# Altium footprint library B66359.PcbLib: 1 footprints
Each footprint in its own frame and in the unit in brackets; x right, y up, seen from the top. Pads: shape width x height; smd on the part's side, far side on the other; paste and mask are expansions set on the pad; w line width, h text height; cw(c..) or ccw(c..) is an arc to the next point about the centre after c.
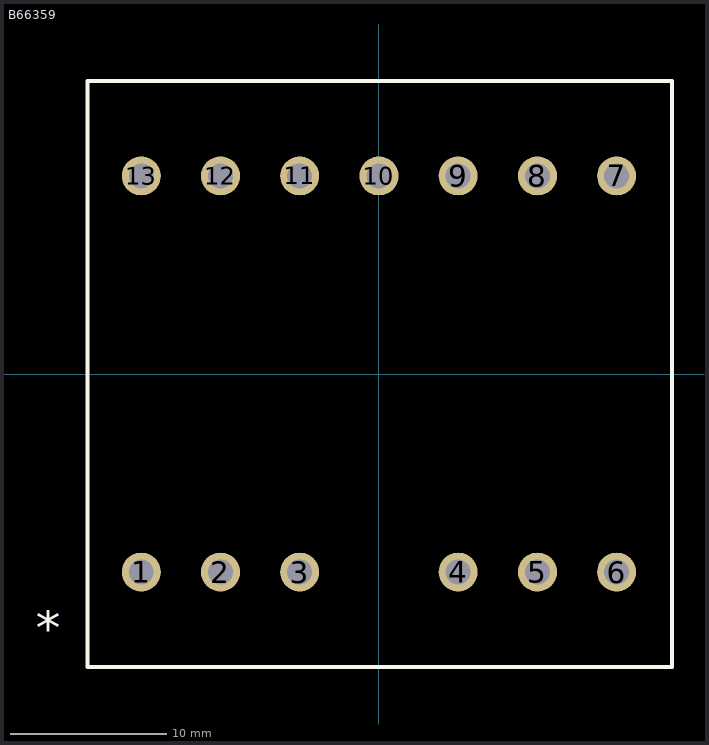
[diagram p0: the footprint, top view; thin cyan lines are the x and y axes]

## B66359 [mm]
pads (13):
  round 2.5 hole 1.6: 1(-15.24,-12.7) 2(-10.16,-12.7) 3(-5.08,-12.7) 4(5.08,-12.7) 5(10.16,-12.7) 6(15.24,-12.7) 7(15.24,12.7) 8(10.16,12.7) 9(5.08,12.7) 10(0,12.7) 11(-5.08,12.7) 12(-10.16,12.7) 13(-15.24,12.7)
Top Overlay:
  lines w0.254: -18.7,-18.8 18.8,-18.8 18.8,18.8 -18.7,18.8 -18.7,-18.8
  text "*" at -22,-18.2 h4
3D body: height 25, standoff 0, extent -17.6,-17.7 17.6,17.7